# Altium schematic symbol library SCH - FET - N-CH - TI CSD MOSFET N-CH F4.SCHLIB: 1 symbol
Pins are listed as number, name and electrical type; pins without a type are passive.

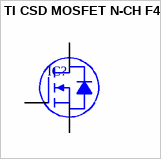
[diagram p0: symbol TI CSD MOSFET N-CH F4]

## TI CSD MOSFET N-CH F4
designator IC?
pins: 1 G, 2 S, 3 D